# Altium integrated library DMP3056LSS_13.IntLib: 1 symbol
Pins are listed as number, name and electrical type; pins without a type are passive.

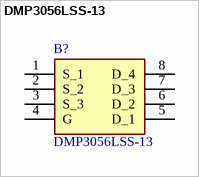
[diagram p0: symbol DMP3056LSS-13]

## DMP3056LSS-13
designator B?
MOSFET P Channel 30V 7.1A 2.1V @ 250uA 45m @ 6A,10V SOP-8_150mil RoHS; Manufacturer_Name: Diodes Incorporated; Geometry.Height: 1.7mm; Manufacturer_Part_Number: DMP3056LSS-13; Mouser Part Number: 621-DMP3056LSS-13; Mouser Price/Stock: https://www.mouser.co.uk/ProductDetail/Diodes-Incorporated/DMP3056LSS-13?qs=oUsD4qhOtFyEnPLZKitYRA%3D%3D; Arrow Part Number: DMP3056LSS-13; Arrow Price/Stock: https://www.arrow.com/en/products/dmp3056lss-13/diodes-incorporated?region=asia; Datasheet Link: https://www.diodes.com//assets/Datasheets/ds31421.pdf
footprint SOIC127P600X170-8N
pins: 1 S_1, 2 S_2, 3 S_3, 4 G, 5 D_1, 6 D_2, 7 D_3, 8 D_4